# EAGLE library part DS1110LE-500+ (library MM24I)
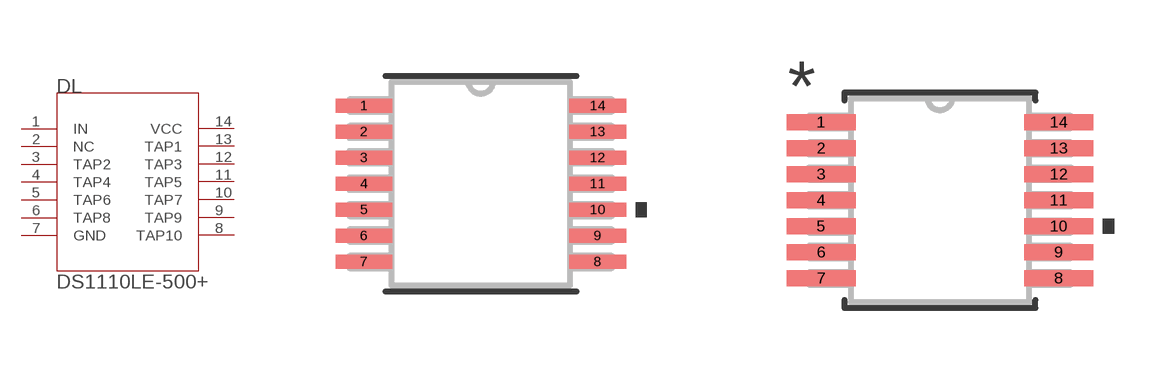
[diagram p3: symbol with the pads of 21-0066J_14; footprints 21-0066J_14, 21-0066J_14-M]

Designator prefix DL

## DS1110LE-500+ (BUILT_BY: EMA_UL_Team; MANUFACTURER_PART_NUMBER: DS1110LE-100+; VALUE: 50-500 ns; VENDOR: Maxim Integrated Products)  [21-0066J_14]
1  IN  in
2  NC  nc
3  TAP2  out
4  TAP4  out
5  TAP6  out
6  TAP8  out
7  GND  pwr
8  TAP10  out
9  TAP9  out
10  TAP7  out
11  TAP5  out
12  TAP3  out
13  TAP1  out
14  VCC  pwr

## DS1110LE-500+21-0066J_14-M (BUILT_BY: EMA_UL_Team; MANUFACTURER_PART_NUMBER: DS1110LE-100+; VENDOR: Maxim Integrated Products)  [21-0066J_14-M]
Pads as for 21-0066J_14

## DS1110LE-500+21-0066J_14-L (BUILT_BY: EMA_UL_Team; MANUFACTURER_PART_NUMBER: DS1110LE-100+; VENDOR: Maxim Integrated Products)  [21-0066J_14-L]
Pads as for 21-0066J_14

## Footprint 21-0066J_14 (pad centres in mm)
smd 1.422 x 0.356: 1 -2.921,1.95; 2 -2.921,1.3; 3 -2.921,0.65; 4 -2.921,0; 5 -2.921,-0.65; 6 -2.921,-1.3; 7 -2.921,-1.95; 8 2.921,-1.95; 9 2.921,-1.3; 10 2.921,-0.65; 11 2.921,0; 12 2.921,0.65; 13 2.921,1.3; 14 2.921,1.95

## Footprint 21-0066J_14-M (pad centres in mm)
smd 1.727 x 0.406: 1 -2.972,1.95; 2 -2.972,1.3; 3 -2.972,0.65; 4 -2.972,0; 5 -2.972,-0.65; 6 -2.972,-1.3; 7 -2.972,-1.95; 8 2.972,-1.95; 9 2.972,-1.3; 10 2.972,-0.65; 11 2.972,0; 12 2.972,0.65; 13 2.972,1.3; 14 2.972,1.95

## Footprint 21-0066J_14-L (pad centres in mm)
smd 1.118 x 0.305: 1 -2.87,1.95; 2 -2.87,1.3; 3 -2.87,0.65; 4 -2.87,0; 5 -2.87,-0.65; 6 -2.87,-1.3; 7 -2.87,-1.95; 8 2.87,-1.95; 9 2.87,-1.3; 10 2.87,-0.65; 11 2.87,0; 12 2.87,0.65; 13 2.87,1.3; 14 2.87,1.95